# EAGLE library part S7B-XH-A (library wearloc)
Wire-to-Board 2.5mm pitch side mount connector Source: http://www.jst-mfg.com/product/pdf/eng/eXH.pdf http://www.jst-mfg.com/product/detail_e.php?series=277
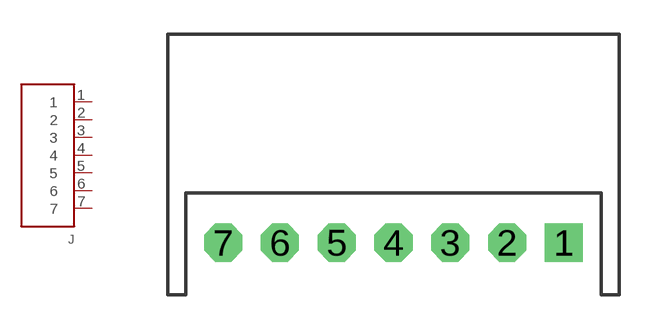
[diagram p6: symbol with the pads of S7B-XH-A; footprint S7B-XH-A]

Designator prefix J

## S7B-XH-A90°  [S7B-XH-A]
1  1  pas
2  2  pas
3  3  pas
4  4  pas
5  5  pas
6  6  pas
7  7  pas

## Footprint S7B-XH-A (pad centres in mm)
drill 1.016 pad 1.676 square: 1 7.5,0
drill 1.016 pad 1.676 octagon: 2 5,0; 3 2.5,0; 4 0,0; 5 -2.5,0; 6 -5,0; 7 -7.5,0